# Altium schematic symbol library fox-electronics.SCHLIB: 1 symbol
Pins are listed as number, name and electrical type; pins without a type are passive.

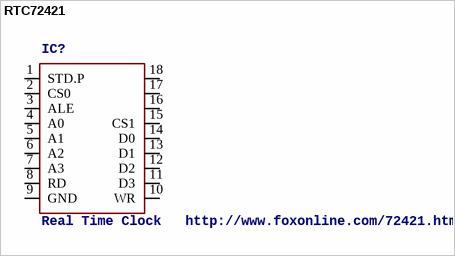
[diagram p0: symbol RTC72421]

## RTC72421
designator IC?, comment Real Time Clock   http://www.foxonline.com/72421.htm
MPN: RTC72421B; OC_FARNELL: 1216228; OC_NEWARK: 01M8738
footprint DIL18
pins: 1 STD.P, 2 CS0, 3 ALE, 4 A0, 5 A1, 6 A2, 7 A3, 8 RD, 9 GND (power), 10 WR, 11 D3, 12 D2, 13 D1, 14 D0, 15 CS1, 16 VCC@1 (power), 17 VCC@2 (power), 18 VCC@3 (power)